# Altium schematic symbol library integratedLib.SchLib: 95 symbols
Pins are listed as number, name and electrical type; pins without a type are passive.

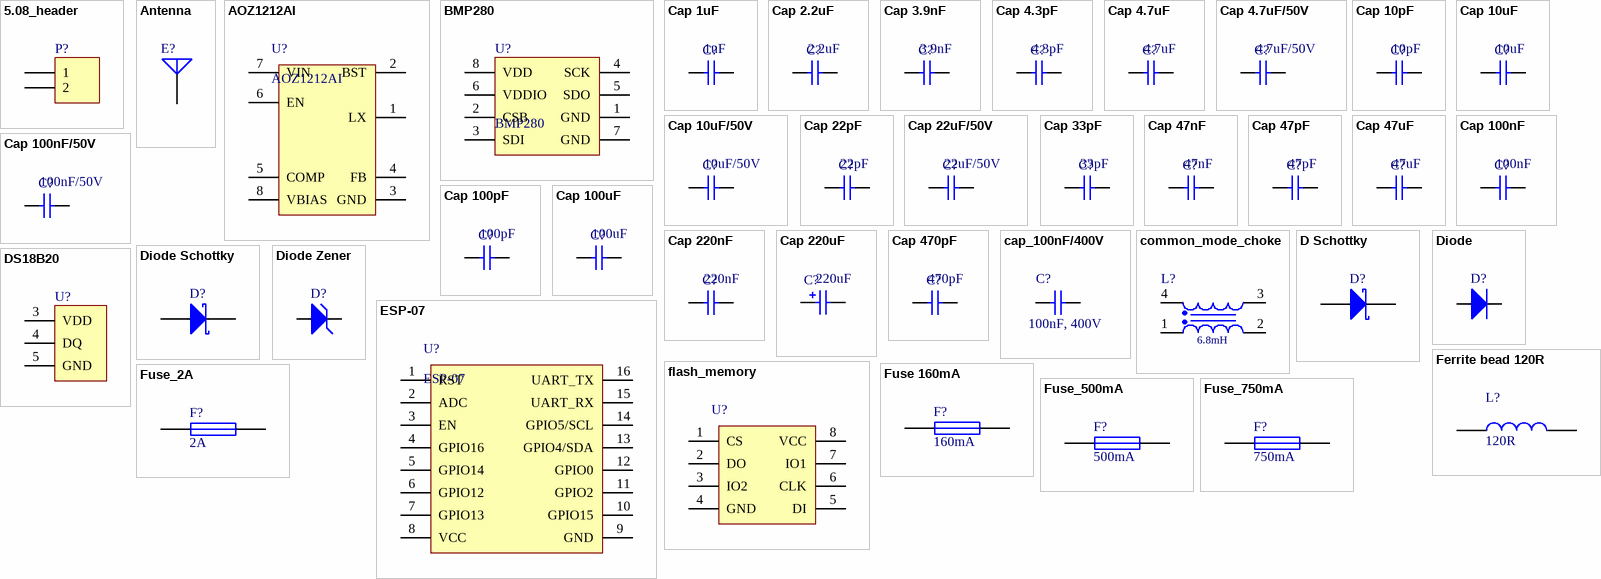
[diagram p0: symbols 5.08_header to Fuse_750mA]

## 5.08_header
designator P?
5.08 Header, 2-Pin; LatestRevisionDate: 17-Jul-2002; LatestRevisionNote: Re-released for DXP Platform.; Publisher: Altium Limited
footprint 5.08_connector_2pin (Connector; Header; 3 Position)
pins: 1, 2

## Antenna
designator E?
Generic Antenna; Published: 24-Mar-1999; LatestRevisionDate: 17-Jul-2002; LatestRevisionNote: Re-released for DXP Platform.; PackageReference: PIN1; Publisher: Altium Limited; ComponentLink1Description: tme; ComponentLink1URL: https://www.tme.eu/pl/details/rf2-19a-t-00-50-g/zlacza-sma-smb-smc/adam-tech/
footprint SMA connector (SMA antena connector)
pins: 1 A

## AOZ1212AI
designator U?
step down coverter; ComponentLink1Description: tme; ComponentLink1URL: https://www.tme.eu/pl/details/aoz1212ai/regulatory-napiecia-uklady-dc-dc/alpha-omega-semiconductor/
footprint SO8 (SO8 8-Leads, Body 4,90x3,90mm, Pitch 1,27mm, IPC Medium Density)
pins: 1 LX, 2 BST, 3 GND, 4 FB, 5 COMP, 6 EN, 7 VIN, 8 VBIAS

## BMP280
designator U?
Digital Pressure Sensor; ComponentLink1Description: Datasheet; ComponentLink1URL: https://datasheet.lcsc.com/szlcsc/Bosch-Sensortec-BMP280_C83291.pdf
footprint LGA8
pins: 1 GND (power), 2 CSB (power), 3 SDI, 4 SCK, 5 SDO (power), 6 VDDIO (power), 7 GND, 8 VDD

## Cap 1uF
designator C?  value 1uF  (hidden comment: Cap 1uF)
Capacitor
footprint C0603 (Chip Capacitor, 2-Leads, Body 1,60x0,80mm, IPC Medium Density)
footprint C0402 (Chip Capacitor, 2-Leads, Body 1,00x0,50mm, IPC Medium Density)
footprint C1210 (Chip Capacitor, 2-Leads, Body 3,28x2,60mm, IPC Medium Density)
pins: 1, 2

## Cap 2.2uF
designator C?  value 2.2uF  (hidden comment: Cap 2.2uF)
Capacitor
footprint C0603 (Chip Capacitor, 2-Leads, Body 1,60x0,80mm, IPC Medium Density)
footprint C0402 (Chip Capacitor, 2-Leads, Body 1,00x0,50mm, IPC Medium Density)
footprint C0805 (Chip Capacitor, 2-Leads, Body 2,00x1,27mm, IPC Medium Density)
footprint C1206 (Chip Capacitor, 2-Leads, Body 3,20x1,60mm, IPC Medium Density)
pins: 1, 2

## Cap 3.9nF
designator C?  value 3.9nF  (hidden comment: Cap 3.9nF)
Capacitor
footprint C0603 (Chip Capacitor, 2-Leads, Body 1,60x0,80mm, IPC Medium Density)
footprint C0402 (Chip Capacitor, 2-Leads, Body 1,00x0,50mm, IPC Medium Density)
pins: 1, 2

## Cap 4.3pF
designator C?  value 4.3pF  (hidden comment: Cap 4.3pF)
Capacitor
footprint C0603 (Chip Capacitor, 2-Leads, Body 1,60x0,80mm, IPC Medium Density)
footprint C0402 (Chip Capacitor, 2-Leads, Body 1,00x0,50mm, IPC Medium Density)
footprint C1210 (Chip Capacitor, 2-Leads, Body 3,28x2,60mm, IPC Medium Density)
pins: 1, 2

## Cap 4.7uF
designator C?  value 4.7uF  (hidden comment: Cap 4.7uF)
Capacitor
footprint C0603 (Chip Capacitor, 2-Leads, Body 1,60x0,80mm, IPC Medium Density)
footprint C0402 (Chip Capacitor, 2-Leads, Body 1,00x0,50mm, IPC Medium Density)
footprint C1210 (Chip Capacitor, 2-Leads, Body 3,28x2,60mm, IPC Medium Density)
footprint C1206 (Chip Capacitor, 2-Leads, Body 3,20x1,60mm, IPC Medium Density)
footprint C0805 (Chip Capacitor, 2-Leads, Body 2,00x1,27mm, IPC Medium Density)
pins: 1, 2

## Cap 4.7uF/50V
designator C?  value 4.7uF/50V  (hidden comment: Cap 4.7uF/50V)
Capacitor
footprint C0603 (Chip Capacitor, 2-Leads, Body 1,60x0,80mm, IPC Medium Density)
footprint C0402 (Chip Capacitor, 2-Leads, Body 1,00x0,50mm, IPC Medium Density)
footprint C1210 (Chip Capacitor, 2-Leads, Body 3,28x2,60mm, IPC Medium Density)
footprint C1206 (Chip Capacitor, 2-Leads, Body 3,20x1,60mm, IPC Medium Density)
footprint C0805 (Chip Capacitor, 2-Leads, Body 2,00x1,27mm, IPC Medium Density)
pins: 1, 2

## Cap 10pF
designator C?  value 10pF  (hidden comment: Cap 10pF)
Capacitor
footprint C0603 (Chip Capacitor, 2-Leads, Body 1,60x0,80mm, IPC Medium Density)
footprint C0402 (Chip Capacitor, 2-Leads, Body 1,00x0,50mm, IPC Medium Density)
footprint C1210 (Chip Capacitor, 2-Leads, Body 3,28x2,60mm, IPC Medium Density)
pins: 1, 2

## Cap 10uF
designator C?  value 10uF  (hidden comment: Cap 10uF)
Capacitor
footprint C0603 (Chip Capacitor, 2-Leads, Body 1,60x0,80mm, IPC Medium Density)
footprint C0402 (Chip Capacitor, 2-Leads, Body 1,00x0,50mm, IPC Medium Density)
footprint C1210 (Chip Capacitor, 2-Leads, Body 3,28x2,60mm, IPC Medium Density)
pins: 1, 2

## Cap 10uF/50V
designator C?  value 10uF/50V  (hidden comment: Cap 10uF/50V)
Capacitor
footprint C0603 (Chip Capacitor, 2-Leads, Body 1,60x0,80mm, IPC Medium Density)
footprint C0402 (Chip Capacitor, 2-Leads, Body 1,00x0,50mm, IPC Medium Density)
footprint C0805 (Chip Capacitor, 2-Leads, Body 2,00x1,27mm, IPC Medium Density)
footprint C1206 (Chip Capacitor, 2-Leads, Body 3,20x1,60mm, IPC Medium Density)
pins: 1, 2

## Cap 22pF
designator C?  value 22pF  (hidden comment: Cap 22pF)
Capacitor
footprint C0603 (Chip Capacitor, 2-Leads, Body 1,60x0,80mm, IPC Medium Density)
footprint C0402 (Chip Capacitor, 2-Leads, Body 1,00x0,50mm, IPC Medium Density)
footprint C1210 (Chip Capacitor, 2-Leads, Body 3,28x2,60mm, IPC Medium Density)
pins: 1, 2

## Cap 22uF/50V
designator C?  value 22uF/50V  (hidden comment: Cap 22uF/50V)
Capacitor
footprint C0603 (Chip Capacitor, 2-Leads, Body 1,60x0,80mm, IPC Medium Density)
footprint C0402 (Chip Capacitor, 2-Leads, Body 1,00x0,50mm, IPC Medium Density)
footprint C0805 (Chip Capacitor, 2-Leads, Body 2,00x1,27mm, IPC Medium Density)
footprint C1206 (Chip Capacitor, 2-Leads, Body 3,20x1,60mm, IPC Medium Density)
pins: 1, 2

## Cap 33pF
designator C?  value 33pF  (hidden comment: Cap 33pF)
Capacitor
footprint C0603 (Chip Capacitor, 2-Leads, Body 1,60x0,80mm, IPC Medium Density)
footprint C0402 (Chip Capacitor, 2-Leads, Body 1,00x0,50mm, IPC Medium Density)
footprint C1210 (Chip Capacitor, 2-Leads, Body 3,28x2,60mm, IPC Medium Density)
pins: 1, 2

## Cap 47nF
designator C?  value 47nF  (hidden comment: Cap 47nF)
Capacitor 47nF
footprint C0603 (Chip Capacitor, 2-Leads, Body 1,60x0,80mm, IPC Medium Density)
footprint C0402 (Chip Capacitor, 2-Leads, Body 1,00x0,50mm, IPC Medium Density)
footprint C1210 (Chip Capacitor, 2-Leads, Body 3,28x2,60mm, IPC Medium Density)
pins: 1, 2

## Cap 47pF
designator C?  value 47pF  (hidden comment: Cap 47pF)
Capacitor
footprint C0603 (Chip Capacitor, 2-Leads, Body 1,60x0,80mm, IPC Medium Density)
footprint C0402 (Chip Capacitor, 2-Leads, Body 1,00x0,50mm, IPC Medium Density)
footprint C1210 (Chip Capacitor, 2-Leads, Body 3,28x2,60mm, IPC Medium Density)
pins: 1, 2

## Cap 47uF
designator C?  value 47uF  (hidden comment: Cap 47uF)
Capacitor
footprint C0603 (Chip Capacitor, 2-Leads, Body 1,60x0,80mm, IPC Medium Density)
footprint C0402 (Chip Capacitor, 2-Leads, Body 1,00x0,50mm, IPC Medium Density)
footprint C1210 (Chip Capacitor, 2-Leads, Body 3,28x2,60mm, IPC Medium Density)
footprint C1206 (Chip Capacitor, 2-Leads, Body 3,20x1,60mm, IPC Medium Density)
pins: 1, 2

## Cap 100nF
designator C?  value 100nF  (hidden comment: Cap 100nF)
Capacitor
footprint C0603 (Chip Capacitor, 2-Leads, Body 1,60x0,80mm, IPC Medium Density)
footprint C0402 (Chip Capacitor, 2-Leads, Body 1,00x0,50mm, IPC Medium Density)
pins: 1, 2

## Cap 100nF/50V
designator C?  value 100nF/50V  (hidden comment: Cap 100nF/50V)
Capacitor
footprint C0603 (Chip Capacitor, 2-Leads, Body 1,60x0,80mm, IPC Medium Density)
footprint C0402 (Chip Capacitor, 2-Leads, Body 1,00x0,50mm, IPC Medium Density)
footprint C0805 (Chip Capacitor, 2-Leads, Body 2,00x1,27mm, IPC Medium Density)
footprint C1206 (Chip Capacitor, 2-Leads, Body 3,20x1,60mm, IPC Medium Density)
pins: 1, 2

## Cap 100pF
designator C?  value 100pF  (hidden comment: Cap 100pF)
Capacitor
footprint C0603 (Chip Capacitor, 2-Leads, Body 1,60x0,80mm, IPC Medium Density)
footprint C0402 (Chip Capacitor, 2-Leads, Body 1,00x0,50mm, IPC Medium Density)
pins: 1, 2

## Cap 100uF
designator C?  value 100uF  (hidden comment: Cap 100uF)
Capacitor
footprint C0603 (Chip Capacitor, 2-Leads, Body 1,60x0,80mm, IPC Medium Density)
footprint C1210 (Chip Capacitor, 2-Leads, Body 3,28x2,60mm, IPC Medium Density)
footprint C1206 (Chip Capacitor, 2-Leads, Body 3,20x1,60mm, IPC Medium Density)
pins: 1, 2

## Cap 220nF
designator C?  value 220nF  (hidden comment: Cap 220nF)
Capacitor
footprint C0603 (Chip Capacitor, 2-Leads, Body 1,60x0,80mm, IPC Medium Density)
footprint C0402 (Chip Capacitor, 2-Leads, Body 1,00x0,50mm, IPC Medium Density)
footprint C1210 (Chip Capacitor, 2-Leads, Body 3,28x2,60mm, IPC Medium Density)
pins: 1, 2

## Cap 220uF
designator C?  value 220uF
Polarized Capacitor (Radial) SMD
footprint CAP_8x10 (Aluminum Electrolytic Capacitor, Body 8,30x8,30x10,50mm, IPC High Density)
pins: 1, 2
1 alternate drawing of the same symbol

## Cap 470pF
designator C?  value 470pF  (hidden comment: Cap 470pF)
Capacitor
footprint C0603 (Chip Capacitor, 2-Leads, Body 1,60x0,80mm, IPC Medium Density)
footprint C0402 (Chip Capacitor, 2-Leads, Body 1,00x0,50mm, IPC Medium Density)
footprint C1210 (Chip Capacitor, 2-Leads, Body 3,28x2,60mm, IPC Medium Density)
pins: 1, 2

## cap_100nF/400V
designator C?, comment 100nF, 400V
WCAP-FTBE THT Film Capacitors, 100nF, 400VDC; Part Number: 890283423001CS; Insulation Resistance: 9000MOhm; Dissipation Factor@100kHz: 2.4%; Dissipation Factor@1kHz: 1%; Dissipation Factor@10kHz: 1.4%; Pitch: 10mm; Rate of Voltage Rise: 34V/us; Technical Reference: MPSP010104K400DCPP55004; ComponentLink1Description: Manufacturer; ComponentLink1URL: http://www.we-online.de; ComponentLink2Description: Datasheet; ComponentLink2URL: https://katalog.we-online.com/pbs/datasheet/890283423001CS.pdf; Length: 13mm; Mounting Technology: THT; Packaging: Carton; Operating Temperature: -40 to +85degC; Width: 5mm; Capacitance: 100nF; Height: 11mm; Rated Voltage: 400VDC; Publisher: Wurth Elektronik; Published Date: August 2019
footprint L13_W5_H11_P10 (THT Film Capacitors, body 13x5mm)
pins: 1, 2

## common_mode_choke
designator L?, comment 6.8mH
WE-LF Common Mode Power Line Choke, Type SV, 6.8mH, 1A, 250V; Manufacturer Part Number: 7446121007; Manufacturer: Wurth Elektronik; DC Resistance max.: 0.3Ohm; Insulation Test Voltage: 1500VAC; Rated Voltage: 250VAC; ComponentLink1Description: Manufacturer; ComponentLink1URL: http://www.we-online.de; ComponentLink2Description: Datasheet; ComponentLink2URL: https://www.we-online.com/catalog/datasheet/7446121007.pdf; Published Date: April 2020; Operating Temperature: -40 to +125degC; Mounting Technology: THT; Packaging: Tray and Carton; Inductance: 6.8mH; Rated Current: 1A; Size: Type SV
footprint WE-LF_Type SV (Common Mode Power Line Choke, THT, 4-leads, body 18.5x13.5mm)
pins: 1, 2, 3, 4

## D Schottky
designator D?
Schottky Diode; Published: 8-Jun-2000; LatestRevisionDate: 17-Jul-2002; LatestRevisionNote: Re-released for DXP Platform.; PackageReference: SMB; Publisher: Altium Limited; PackageDescription: DO-214-AA/SMB; 2 C-Bend Leads; Body 5.3 x 3.6 mm, inc. leads (LxW); Code_JEDEC: DO-214-AA
footprint SMA (Molded Diode, 2-Leads, Body 4,28x2,60mm, IPC High Density)
footprint SOD-123A (SOD-123A, 2-Leads, Body 1,60x3,70mm, IPC High Density)
pins: 1 A, 2 K

## Diode
designator D?
fast switching diode; Published: 8-Jun-2000; LatestRevisionDate: 17-Jul-2002; LatestRevisionNote: Re-released for DXP Platform.; DatasheetVersion: 1997; PackageReference: DO-35; Publisher: Altium Limited; PackageDescription: Diode, Axial; Body 3.8 x 1.9 mm (LxDia. max), Lead Dia. 0.53 mm (max); Code_JEDEC: DO-204-AH; ComponentLink1Description: farnell; ComponentLink1URL: https://pl.farnell.com/nexperia/1ps76sb10-115/diode-schottky-200ma-30v-sod-323/dp/1081179RL
footprint SMADIODE (Molded Diode, 2-Leads, Body 4,50x2,65mm, IPC Medium Density)
footprint SOD123 (SODFL, 2-Leads, Body 1,90x3,70mm, IPC Medium Density)
footprint SOD323 (SODFL, 2-Leads, Body 1,28x2,50mm, IPC Medium Density)
footprint SMA (Molded Diode, 2-Leads, Body 4,28x2,60mm, IPC High Density)
footprint SOD-123A (SOD-123A, 2-Leads, Body 1,60x3,70mm, IPC High Density)
pins: 1 A, 2 K

## Diode Schottky
designator D?, comment STPS1L30U  (value not drawn)
Schottky Rectifier; Note: Terminal 2 is the TAB and is electrically connected to the cathode; Published: 8-Jun-2000; LatestRevisionDate: 17-Jul-2002; LatestRevisionNote: Re-released for DXP Platform.; DatasheetVersion: Dec-1997; PackageVersion: Feb-1998; PackageReference: TO-220AC; Publisher: Altium Limited; PackageDescription: TO, Thru-Hole, Vertical, Heatsink Mounted; 3 In-Line Leads (1 Absent); Pitch 2.54 mm; ComponentLink1Description: octopart; ComponentLink1URL: https://octopart.com/rb161mm-20tr-rohm-50255147?r=sp&s=49MKJYpmTviEGZkvRDL2JQ
footprint SMBDIODE (Molded Diode, 2-Leads, Body 4,25x3,65mm, IPC Medium Density)
footprint SOD123 (SODFL, 2-Leads, Body 1,90x3,70mm, IPC Medium Density)
footprint SOD-123A (SOD-123A, 2-Leads, Body 1,60x3,70mm, IPC High Density)
footprint SMA (Molded Diode, 2-Leads, Body 4,28x2,60mm, IPC High Density)
pins: 1 A, 2 K

## Diode Zener
designator D?, comment Zener Diode  (value not drawn)
Published: 8-Jun-2000; LatestRevisionDate: 17-Jul-2002; LatestRevisionNote: Re-released for DXP Platform.; PackageReference: DIODE-0.7; Publisher: Altium Limited; PackageDescription: Diode, Thru-Hole; 2 Leads; 0.7 in Pin Spacing; ComponentLink1Description: farnell; ComponentLink1URL: https://pl.farnell.com/on-semiconductor/mm3z5v6st1g/zener-diode-5-6v-sod-323/dp/2463484
footprint SOD323 (SODFL, 2-Leads, Body 1,28x2,50mm, IPC Medium Density)
footprint miniMELF (MELF Diode, 2-Leads, Body 3,50x1,50mm, IPC High Density)
pins: 1 A, 2 K

## DS18B20
designator U?
DS18B20; LatestRevisionDate: 17-Jul-2002; LatestRevisionNote: Re-released for DXP Platform.; Publisher: Altium Limited
footprint SO8 (SO8 8-Leads, Body 4,90x3,90mm, Pitch 1,27mm, IPC Medium Density)
pins: 3 VDD, 4 DQ, 5 GND

## ESP-07
designator U?
AiThinker ESP-07; ComponentLink1Description: datasheet; ComponentLink1URL: http://wiki.ai-thinker.com/_media/esp8266/esp8266_series_modules_user_manual_v1.1.pdf
footprint ESP-07
pins: 1 RST, 2 ADC, 3 EN, 4 GPIO16, 5 GPIO14, 6 GPIO12, 7 GPIO13, 8 VCC (power) "3.3V", 9 GND, 10 GPIO15, 11 GPIO2, 12 GPIO0, 13 GPIO4/SDA, 14 GPIO5/SCL, 15 UART_RX, 16 UART_TX

## Ferrite bead 120R
designator L?, comment 120R
Ferrite bead; Value: 10mH; Published: 24-Mar-1999; LatestRevisionDate: 17-Jul-2002; LatestRevisionNote: Re-released for DXP Platform.; PackageReference: AXIAL-0.9; Publisher: Altium Limited; PackageDescription: Axial Device, Thru-Hole; 2 Leads; 0.9 in Pin Spacing; ComponentLink1Description: Ferrite bead TDK MMZ2012Y300B; ComponentLink1URL: https://www.tme.eu/pl/details/mmz2012y300b/ferryty-koraliki/tdk/
footprint 0805FerriteBead (Chip Ferrite Bead, 2-Leads, Body 2,00x1,25mm, IPC Medium Density)
pins: 1, 2

## flash_memory
designator U?, comment W25Q128JVSIQ  (value not drawn)
SPI Flash  memory 128MB; ComponentLink1Description: tme; ComponentLink1URL: https://datasheet.lcsc.com/szlcsc/Winbond-Elec-W25Q128JVSIQTR_C97521.pdf
footprint SOIC8_208-mil
pins: 1 CS, 2 DO, 3 IO2, 4 GND, 5 DI, 6 CLK, 7 IO1, 8 VCC

## Fuse 160mA
designator F?, comment 160mA
Fuse / 3413.0008.22; Published: 8-Jun-2000; LatestRevisionDate: 17-Jul-2002; LatestRevisionNote: Re-released for DXP Platform.; PackageReference: PIN-W2/E2.8; Publisher: Altium Limited; PackageDescription: Thru-Hole; 2 Leads; ComponentLink1Description: octopart; ComponentLink1URL: https://octopart.com/3413.0008.22-schurter-13188129?r=sp&s=UiLZPHeMR-aLU9bKBH07dg
footprint R1206 (Chip Resistor, 2-Leads, Body 3,15x1,55mm, IPC Medium Density)
pins: 1, 2

## Fuse_2A
designator F?, comment 2A
Fuse / 2850030; Published: 8-Jun-2000; LatestRevisionDate: 17-Jul-2002; LatestRevisionNote: Re-released for DXP Platform.; PackageReference: PIN-W2/E2.8; Publisher: Altium Limited; PackageDescription: Thru-Hole; 2 Leads; ComponentLink1Description: farnell; ComponentLink1URL: https://pl.farnell.com/multicomp/mccfb1206ttt-2/fuse-smd-2a-slow-blow-1206/dp/2850030
footprint R1206 (Chip Resistor, 2-Leads, Body 3,15x1,55mm, IPC Medium Density)
pins: 1, 2

## Fuse_500mA
designator F?, comment 500mA
Fuse / 3413.0113.22; Published: 8-Jun-2000; LatestRevisionDate: 17-Jul-2002; LatestRevisionNote: Re-released for DXP Platform.; PackageReference: PIN-W2/E2.8; Publisher: Altium Limited; PackageDescription: Thru-Hole; 2 Leads; ComponentLink1Description: octopart; ComponentLink1URL: https://octopart.com/3413.0113.22-schurter-563523?r=sp&s=zSJ1_IK_S9Whksyv-Dc7qA
footprint R1206 (Chip Resistor, 2-Leads, Body 3,15x1,55mm, IPC Medium Density)
pins: 1, 2

## Fuse_750mA
designator F?, comment 750mA
Fuse / 3413.0114.22; Published: 8-Jun-2000; LatestRevisionDate: 17-Jul-2002; LatestRevisionNote: Re-released for DXP Platform.; PackageReference: PIN-W2/E2.8; Publisher: Altium Limited; PackageDescription: Thru-Hole; 2 Leads; ComponentLink1Description: farnell; ComponentLink1URL: https://pl.farnell.com/schurter/3413-0114-22/fuse-0-75a-63vdc-smt/dp/7785720
footprint R1206 (Chip Resistor, 2-Leads, Body 3,15x1,55mm, IPC Medium Density)
pins: 1, 2

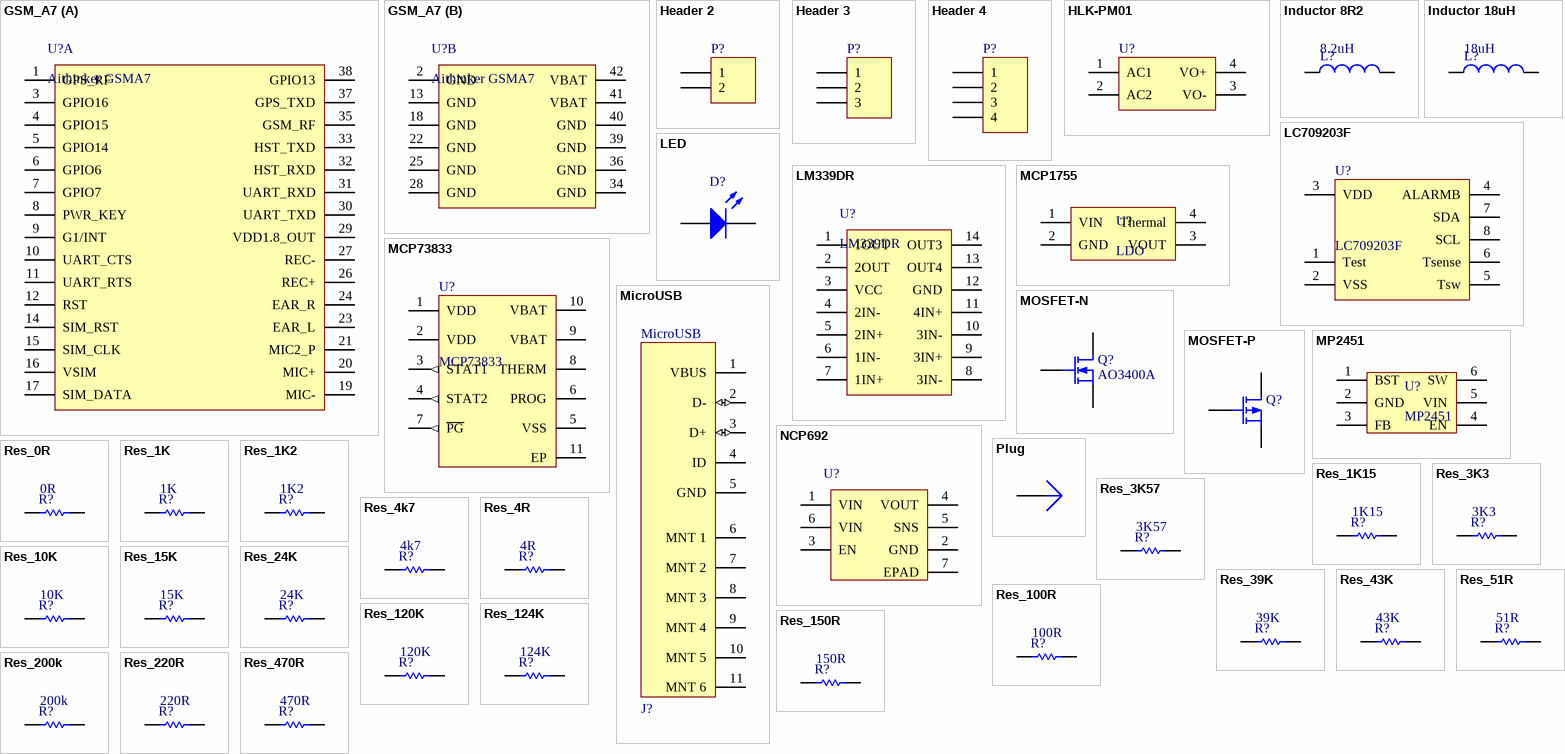
[diagram p1: symbols GSM_A7 to Res_470R]

## GSM_A7
designator U?, comment Aithinker GSMA7
Aitkinker GSM A7 module; Manufacturer: STMicroelectronics; PartNumber: STM32L152CCU6; Core: ARM Cortex-M3; D/A Converter: 2x12-bit (2 Channel); Data E2PROM nom (B): 8192; Display controller: LCD 4x18; FLASH Size (Prog) (kB): 256; I/Os (High Current): 37; Internal RAM Size (kB): 32; Packing: Tray; Supply Voltage(Vcc) min (V): 1.65; DatasheetVersion: Rev. 3; PackageVersion: Rev. 1, 04/2013; PackageReference: UFQFPN48; PackageDescription: 48-Pin Ultra Thin Fine Pitch Quad Flat No-Lead, 7 x 7 x 0.6 mm Body, 0.5 mm Pitch, Exposed Pad; Operating Frequency(F) (Processor speed) (MHz): 32; Mounting Technology: Surface Mount
footprint A7
part A pins: 1 GPS_RF, 3 GPIO16, 4 GPIO15, 5 GPIO14, 6 GPIO6, 7 GPIO7, 8 PWR_KEY (power) "3.3V", 9 G1/INT, 10 UART_CTS, 11 UART_RTS, 12 RST, 14 SIM_RST, 15 SIM_CLK, 16 VSIM, 17 SIM_DATA, 19 MIC-, 20 MIC+, 21 MIC2_P, 23 EAR_L, 24 EAR_R, 26 REC+, 27 REC-, 29 VDD1.8_OUT, 30 UART_TXD, 31 UART_RXD, 32 HST_RXD, 33 HST_TXD, 35 GSM_RF, 37 GPS_TXD, 38 GPIO13
part B pins: 2 GND, 13 GND, 18 GND, 22 GND, 25 GND, 28 GND, 34 GND, 36 GND, 39 GND, 40 GND, 41 VBAT, 42 VBAT

## Header 2
designator P?
Header, 2-Pin; LatestRevisionDate: 17-Jul-2002; LatestRevisionNote: Re-released for DXP Platform.; Publisher: Altium Limited
footprint HDR1X2 (Connector; Header; 2 Position)
footprint HDR1X2 - 1.27mm (Connector; Header; 2 Position)
footprint HDR1x2_screw (Connector; Header; 2 Position)
pins: 1, 2

## Header 3
designator P?
Header, 3-Pin; LatestRevisionDate: 17-Jul-2002; LatestRevisionNote: Re-released for DXP Platform.; Publisher: Altium Limited
footprint HDR1X3 - 1.27MM (Connector; Header; 4 Position)
footprint HDR1X3 (Connector; Header; 3 Position)
pins: 1, 2, 3

## Header 4
designator P?
Header, 4-Pin; LatestRevisionDate: 17-Jul-2002; LatestRevisionNote: Re-released for DXP Platform.; Publisher: Altium Limited
footprint HDR1X4 - 1.27MM (Connector; Header; 4 Position)
footprint HDR1X4 (Connector; Header; 4 Position)
pins: 1, 2, 3, 4

## HLK-PM01
designator U?
HLK-PM01 230V / 5V 0.6A; LatestRevisionDate: 17-Jul-2002; LatestRevisionNote: Re-released for DXP Platform.; Publisher: Altium Limited
footprint HLK-PM01
pins: 1 AC1, 2 AC2, 3 VO-, 4 VO+

## Inductor 8R2
designator L?  value 8.2uH
HPI0630-8R2; Code_IEC: 1005; Published: 8-Jun-2000; LatestRevisionDate: 29-May-2009; LatestRevisionNote: IPC-7351 Footprint Added.; PackageReference: 0402-A; Publisher: Altium Limited; PackageDescription: Chip Inductor; Code_JEITA: 0402; ComponentLink1Description: tme; ComponentLink1URL: https://www.tme.eu/pl/details/hpi0630-8r2/dlawiki-smd-mocy/ferrocore/
footprint inductor 6.7x6.7
pins: 1, 2

## Inductor 18uH
designator L?  value 18uH
WE 744 043 180; Code_IEC: 1005; Published: 8-Jun-2000; LatestRevisionDate: 29-May-2009; LatestRevisionNote: IPC-7351 Footprint Added.; PackageReference: 0402-A; Publisher: Altium Limited; PackageDescription: Chip Inductor; Code_JEITA: 0402
footprint WE-TPC_4828 (Power Inductor, SMD, 2-Leads, body 4.8x4.8mm)
pins: 1, 2

## LC709203F
designator U?
Smart LiB GaugeBattery Fuel Gauge LSI For 1‐Cell Lithium‐ion/Polymer (Li+); ComponentLink1Description: Datasheet; ComponentLink1URL: https://www.onsemi.com/pub/Collateral/LC709203F-D.PDF
footprint WDFN8 (WDFN8 , 8-Leads, Body 3,00x4,00mm, Pitch 0,65mm, Thermal Pad 1,80x2,40mm, IPC Low Density)
pins: 1 Test (power), 2 VSS (power), 3 VDD, 4 ALARMB, 5 Tsw (power), 6 Tsense (power), 7 SDA, 8 SCL

## LED
designator D?
Typical RED GaAs LED; Published: 8-Jun-2000; LatestRevisionDate: 08-Jul-2005; LatestRevisionNote: Mech Layer 1 removed.; PackageReference: LED-1; Publisher: Altium Limited; PackageDescription: LED; 2 Leads
footprint 0603LedRed (Chip Led 2-Leads, Body 1,60x0,85mm, IPC Medium Density)
pins: 1 A, 2 K

## LM339DR
designator U?
QUAD DIFFERENTIAL COMPARATORS; ComponentLink1Description: datasheet; ComponentLink1URL: https://datasheet.lcsc.com/szlcsc/Texas-Instruments-TI-LM339DR_C7948.pdf
footprint SOIC14
pins: 1 1OUT, 2 2OUT, 3 VCC, 4 2IN-, 5 2IN+, 6 1IN-, 7 1IN+, 8 3IN-, 9 3IN+, 10 3IN-, 11 4IN+, 12 GND, 13 OUT4, 14 OUT3

## MCP1755
designator U?, comment LDO
LDO 3.3V; ComponentLink1Description: datasheet; ComponentLink1URL: http://ww1.microchip.com/downloads/en/devicedoc/25160a.pdf
footprint SOT223 (SOT223, 4-Leads, Body 6,50x7,00mm (avg), Pitch 2,30mm, IPC High Density)
pins: 1 VIN, 2 GND, 3 VOUT, 4 Thermal

## MCP73833
designator U?
Li-Ion, Li-Polymer Charge Management Controller; PartNumber: MCP73831T-2ATI/OT; PackageDescription: 5-Lead Plastic Small Outline Transistor (OT) [SOT-23]; PackageVersion: revBB, Aug-2009; DatasheetVersion: revE, Sep-2008; Code_IPC: SOT23-5; PackageReference: SOT-23-OT5; ComponentLink1Description: octopart; ComponentLink1URL: https://octopart.com/mcp73833-fci%2Fmf-microchip-664198?r=sp&s=e45vLxEIQu2vH537JitsJQ
footprint DFN 3x3 (SON, 10-Leads, Body 3,00x3,00mm, Pitch 0,50mm, Thermal Pad 2,38x1,55mm, IPC Medium Density)
pins: 1 VDD (power), 2 VDD (power), 3 STAT1 (out), 4 STAT2 (out), 5 VSS, 6 PROG, 7 ~{PG} (out), 8 THERM, 9 VBAT (power), 10 VBAT (power), 11 EP

## MicroUSB
designator J?
ComponentLink1Description: octopart; ComponentLink1URL: https://octopart.com/1050170001-molex-11866487?r=sp&s=Rj0fqO-uQZ6OfaPf4COaug
footprint MicroUSB
pins: 1 VBUS (power), 2 D- (io), 3 D+ (io), 4 ID, 5 GND (power), 6 MNT 1, 7 MNT 2, 8 MNT 3, 9 MNT 4, 10 MNT 5, 11 MNT 6

## MOSFET-N
designator Q?, comment AO3400A
N-MOSFET AO3400A; Published: 8-Jun-2000; LatestRevisionDate: 17-Jul-2002; LatestRevisionNote: Re-released for DXP Platform.; PackageVersion: 1995/1996; PackageReference: E3; Publisher: Altium Limited; PackageDescription: TO, Flat Index; 3 In-Line, Axial Leads; Body Dia. 4.6mm; Lead Dia. 0.5 mm (max); ComponentLink1Description: datasheet; ComponentLink1URL: https://datasheet.lcsc.com/szlcsc/1908271131_Youtai-Semiconductor-Co-Ltd-AO3400A_C347475.pdf
footprint SOT23 (SOT23, 3-Leads, Body 2,90x2,45mm, Pitch 0,95mm, IPC Medium Density)
pins: 1 G, 2 S, 3 D

## MOSFET-P
designator Q?, comment AO3401A  (value not drawn)
P-Channel MOSFET AO3401A; Published: 8-Jun-2000; LatestRevisionDate: 17-Jul-2002; LatestRevisionNote: Re-released for DXP Platform.; PackageVersion: 1995/1996; PackageReference: E3; Publisher: Altium Limited; PackageDescription: TO, Flat Index; 3 In-Line, Axial Leads; Body Dia. 4.6mm; Lead Dia. 0.5 mm (max); ComponentLink1Description: datasheet; ComponentLink1URL: https://datasheet.lcsc.com/szlcsc/Alpha-Omega-Semicon-AOS-AO3401A_C15127.pdf
footprint SOT23 (SOT23, 3-Leads, Body 2,90x2,45mm, Pitch 0,95mm, IPC Medium Density)
pins: 1 G, 2 S, 3 D

## MP2451
designator U?
step down coverter; ComponentLink1Description: datasheet; ComponentLink1URL: https://www.monolithicpower.com/en/documentview/productdocument/index/version/2/document_type/Datasheet/lang/en/sku/MP2451/document_id/253/
footprint SOT23-6 (SOT23, 6-Leads, Body 2,90x2,80mm, Pitch 0,95mm, IPC High Density)
pins: 1 BST, 2 GND, 3 FB, 4 EN, 5 VIN, 6 SW

## NCP692
designator U?, comment NCP692MN33T2G  (value not drawn)
Very Low Dropout Regulator; ComponentLink1Description: datasheet; ComponentLink1URL: https://datasheet.lcsc.com/szlcsc/ON-Semicon-ON-NCP692MN33T2G_C145519.pdf
footprint DFN6_3x3
pins: 1 VIN, 2 GND, 3 EN, 4 VOUT, 5 SNS, 6 VIN, 7 EPAD

## Plug
designator P?  (no BOM)
Plug; LatestRevisionDate: 17-Jul-2002; LatestRevisionNote: Re-released for DXP Platform.; Publisher: Altium Limited
footprint PIN1 (Connector; Plug)
footprint pin smd (Chip Resistor, 2-Leads, Body 1,60x0,80mm, IPC Medium Density)
footprint pin1_small
footprint pin smd small (Chip Resistor, 2-Leads, Body 1,60x0,80mm, IPC Medium Density)
pins: 1

## Res_0R
designator R?  value 0R  (hidden comment: Res_0R)
Resistor
footprint R0603 (Chip Resistor, 2-Leads, Body 1,60x0,80mm, IPC Medium Density)
footprint R1206 (Chip Resistor, 2-Leads, Body 3,15x1,55mm, IPC Medium Density)
footprint R0805 (Chip Resistor, 2-Leads, Body 2,00x1,25mm, IPC Medium Density)
footprint R0402 (Chip Resistor, 2-Leads, Body 1,00x0,50mm, IPC Medium Density)
pins: 1, 2

## Res_1K
designator R?  value 1K  (hidden comment: Res_1K)
Resistor
footprint R0603 (Chip Resistor, 2-Leads, Body 1,60x0,80mm, IPC Medium Density)
footprint R1206 (Chip Resistor, 2-Leads, Body 3,15x1,55mm, IPC Medium Density)
footprint R0805 (Chip Resistor, 2-Leads, Body 2,00x1,25mm, IPC Medium Density)
footprint R0402 (Chip Resistor, 2-Leads, Body 1,00x0,50mm, IPC Medium Density)
pins: 1, 2

## Res_1K2
designator R?  value 1K2  (hidden comment: Res_1K2)
Resistor
footprint R0603 (Chip Resistor, 2-Leads, Body 1,60x0,80mm, IPC Medium Density)
footprint R1206 (Chip Resistor, 2-Leads, Body 3,15x1,55mm, IPC Medium Density)
footprint R0805 (Chip Resistor, 2-Leads, Body 2,00x1,25mm, IPC Medium Density)
footprint R0402 (Chip Resistor, 2-Leads, Body 1,00x0,50mm, IPC Medium Density)
pins: 1, 2

## Res_1K15
designator R?  value 1K15  (hidden comment: Res_1K15)
Resistor
footprint R0603 (Chip Resistor, 2-Leads, Body 1,60x0,80mm, IPC Medium Density)
footprint R1206 (Chip Resistor, 2-Leads, Body 3,15x1,55mm, IPC Medium Density)
footprint R0805 (Chip Resistor, 2-Leads, Body 2,00x1,25mm, IPC Medium Density)
footprint R0402 (Chip Resistor, 2-Leads, Body 1,00x0,50mm, IPC Medium Density)
pins: 1, 2

## Res_3K3
designator R?  value 3K3  (hidden comment: Res_3K3)
Resistor
footprint R0603 (Chip Resistor, 2-Leads, Body 1,60x0,80mm, IPC Medium Density)
footprint R1206 (Chip Resistor, 2-Leads, Body 3,15x1,55mm, IPC Medium Density)
footprint R0805 (Chip Resistor, 2-Leads, Body 2,00x1,25mm, IPC Medium Density)
footprint R0402 (Chip Resistor, 2-Leads, Body 1,00x0,50mm, IPC Medium Density)
pins: 1, 2

## Res_3K57
designator R?  value 3K57  (hidden comment: Res_3K57)
Resistor
footprint R0603 (Chip Resistor, 2-Leads, Body 1,60x0,80mm, IPC Medium Density)
footprint R1206 (Chip Resistor, 2-Leads, Body 3,15x1,55mm, IPC Medium Density)
footprint R0805 (Chip Resistor, 2-Leads, Body 2,00x1,25mm, IPC Medium Density)
footprint R0402 (Chip Resistor, 2-Leads, Body 1,00x0,50mm, IPC Medium Density)
pins: 1, 2

## Res_4k7
designator R?  value 4k7  (hidden comment: Res_4k7)
Resistor
footprint R0603 (Chip Resistor, 2-Leads, Body 1,60x0,80mm, IPC Medium Density)
footprint R1206 (Chip Resistor, 2-Leads, Body 3,15x1,55mm, IPC Medium Density)
footprint R0805 (Chip Resistor, 2-Leads, Body 2,00x1,25mm, IPC Medium Density)
footprint R0402 (Chip Resistor, 2-Leads, Body 1,00x0,50mm, IPC Medium Density)
pins: 1, 2

## Res_4R
designator R?  value 4R  (hidden comment: Res_4R)
Resistor
footprint R0603 (Chip Resistor, 2-Leads, Body 1,60x0,80mm, IPC Medium Density)
footprint R1206 (Chip Resistor, 2-Leads, Body 3,15x1,55mm, IPC Medium Density)
footprint R0805 (Chip Resistor, 2-Leads, Body 2,00x1,25mm, IPC Medium Density)
footprint R0402 (Chip Resistor, 2-Leads, Body 1,00x0,50mm, IPC Medium Density)
pins: 1, 2

## Res_10K
designator R?  value 10K  (hidden comment: Res_10K)
Resistor
footprint R0603 (Chip Resistor, 2-Leads, Body 1,60x0,80mm, IPC Medium Density)
footprint R1206 (Chip Resistor, 2-Leads, Body 3,15x1,55mm, IPC Medium Density)
footprint R0805 (Chip Resistor, 2-Leads, Body 2,00x1,25mm, IPC Medium Density)
footprint R0402 (Chip Resistor, 2-Leads, Body 1,00x0,50mm, IPC Medium Density)
pins: 1, 2

## Res_15K
designator R?  value 15K  (hidden comment: Res_15K)
Resistor
footprint R0603 (Chip Resistor, 2-Leads, Body 1,60x0,80mm, IPC Medium Density)
footprint R1206 (Chip Resistor, 2-Leads, Body 3,15x1,55mm, IPC Medium Density)
footprint R0805 (Chip Resistor, 2-Leads, Body 2,00x1,25mm, IPC Medium Density)
footprint R0402 (Chip Resistor, 2-Leads, Body 1,00x0,50mm, IPC Medium Density)
pins: 1, 2

## Res_24K
designator R?  value 24K  (hidden comment: Res_24K)
Resistor
footprint R0603 (Chip Resistor, 2-Leads, Body 1,60x0,80mm, IPC Medium Density)
footprint R1206 (Chip Resistor, 2-Leads, Body 3,15x1,55mm, IPC Medium Density)
footprint R0805 (Chip Resistor, 2-Leads, Body 2,00x1,25mm, IPC Medium Density)
footprint R0402 (Chip Resistor, 2-Leads, Body 1,00x0,50mm, IPC Medium Density)
pins: 1, 2

## Res_39K
designator R?  value 39K  (hidden comment: Res_39K)
Resistor
footprint R0603 (Chip Resistor, 2-Leads, Body 1,60x0,80mm, IPC Medium Density)
footprint R1206 (Chip Resistor, 2-Leads, Body 3,15x1,55mm, IPC Medium Density)
footprint R0805 (Chip Resistor, 2-Leads, Body 2,00x1,25mm, IPC Medium Density)
footprint R0402 (Chip Resistor, 2-Leads, Body 1,00x0,50mm, IPC Medium Density)
pins: 1, 2

## Res_43K
designator R?  value 43K  (hidden comment: Res_43K)
Resistor
footprint R0603 (Chip Resistor, 2-Leads, Body 1,60x0,80mm, IPC Medium Density)
footprint R1206 (Chip Resistor, 2-Leads, Body 3,15x1,55mm, IPC Medium Density)
footprint R0805 (Chip Resistor, 2-Leads, Body 2,00x1,25mm, IPC Medium Density)
footprint R0402 (Chip Resistor, 2-Leads, Body 1,00x0,50mm, IPC Medium Density)
pins: 1, 2

## Res_51R
designator R?  value 51R  (hidden comment: Res_51R)
Resistor
footprint R0603 (Chip Resistor, 2-Leads, Body 1,60x0,80mm, IPC Medium Density)
footprint R1206 (Chip Resistor, 2-Leads, Body 3,15x1,55mm, IPC Medium Density)
footprint R0805 (Chip Resistor, 2-Leads, Body 2,00x1,25mm, IPC Medium Density)
footprint R0402 (Chip Resistor, 2-Leads, Body 1,00x0,50mm, IPC Medium Density)
pins: 1, 2

## Res_100R
designator R?  value 100R  (hidden comment: Res_100R)
Resistor
footprint R0603 (Chip Resistor, 2-Leads, Body 1,60x0,80mm, IPC Medium Density)
footprint R1206 (Chip Resistor, 2-Leads, Body 3,15x1,55mm, IPC Medium Density)
footprint R0805 (Chip Resistor, 2-Leads, Body 2,00x1,25mm, IPC Medium Density)
footprint R0402 (Chip Resistor, 2-Leads, Body 1,00x0,50mm, IPC Medium Density)
pins: 1, 2

## Res_120K
designator R?  value 120K  (hidden comment: Res_120K)
Resistor
footprint R0603 (Chip Resistor, 2-Leads, Body 1,60x0,80mm, IPC Medium Density)
footprint R1206 (Chip Resistor, 2-Leads, Body 3,15x1,55mm, IPC Medium Density)
footprint R0805 (Chip Resistor, 2-Leads, Body 2,00x1,25mm, IPC Medium Density)
footprint R0402 (Chip Resistor, 2-Leads, Body 1,00x0,50mm, IPC Medium Density)
pins: 1, 2

## Res_124K
designator R?  value 124K  (hidden comment: Res_124K)
Resistor
footprint R0603 (Chip Resistor, 2-Leads, Body 1,60x0,80mm, IPC Medium Density)
footprint R1206 (Chip Resistor, 2-Leads, Body 3,15x1,55mm, IPC Medium Density)
footprint R0805 (Chip Resistor, 2-Leads, Body 2,00x1,25mm, IPC Medium Density)
footprint R0402 (Chip Resistor, 2-Leads, Body 1,00x0,50mm, IPC Medium Density)
pins: 1, 2

## Res_150R
designator R?  value 150R  (hidden comment: Res_150R)
Resistor
footprint R0603 (Chip Resistor, 2-Leads, Body 1,60x0,80mm, IPC Medium Density)
footprint R1206 (Chip Resistor, 2-Leads, Body 3,15x1,55mm, IPC Medium Density)
footprint R0805 (Chip Resistor, 2-Leads, Body 2,00x1,25mm, IPC Medium Density)
footprint R0402 (Chip Resistor, 2-Leads, Body 1,00x0,50mm, IPC Medium Density)
pins: 1, 2

## Res_200k
designator R?  value 200k  (hidden comment: Res_200k)
Resistor
footprint R0603 (Chip Resistor, 2-Leads, Body 1,60x0,80mm, IPC Medium Density)
footprint R1206 (Chip Resistor, 2-Leads, Body 3,15x1,55mm, IPC Medium Density)
footprint R0805 (Chip Resistor, 2-Leads, Body 2,00x1,25mm, IPC Medium Density)
footprint R0402 (Chip Resistor, 2-Leads, Body 1,00x0,50mm, IPC Medium Density)
pins: 1, 2

## Res_220R
designator R?  value 220R  (hidden comment: Res_220R)
Resistor
footprint R0603 (Chip Resistor, 2-Leads, Body 1,60x0,80mm, IPC Medium Density)
footprint R1206 (Chip Resistor, 2-Leads, Body 3,15x1,55mm, IPC Medium Density)
footprint R0805 (Chip Resistor, 2-Leads, Body 2,00x1,25mm, IPC Medium Density)
footprint R0402 (Chip Resistor, 2-Leads, Body 1,00x0,50mm, IPC Medium Density)
pins: 1, 2

## Res_470R
designator R?  value 470R  (hidden comment: Res_470R)
Resistor
footprint R0603 (Chip Resistor, 2-Leads, Body 1,60x0,80mm, IPC Medium Density)
footprint R1206 (Chip Resistor, 2-Leads, Body 3,15x1,55mm, IPC Medium Density)
footprint R0805 (Chip Resistor, 2-Leads, Body 2,00x1,25mm, IPC Medium Density)
footprint R0402 (Chip Resistor, 2-Leads, Body 1,00x0,50mm, IPC Medium Density)
pins: 1, 2

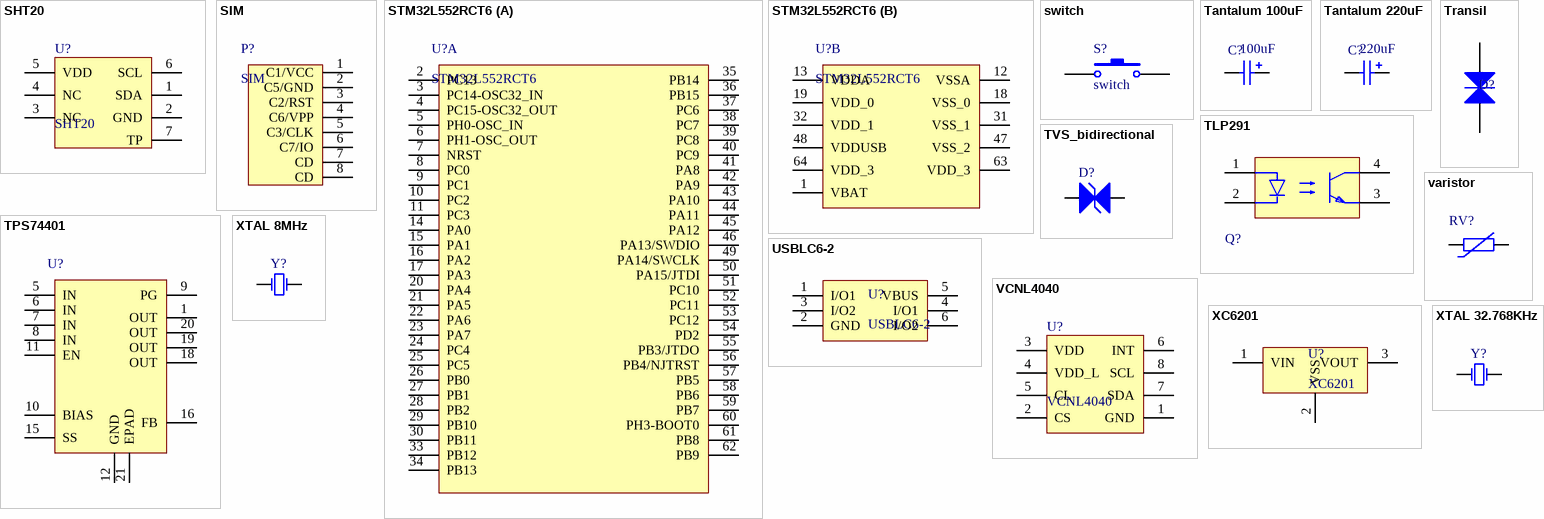
[diagram p2: symbols SHT20 to XTAL 32.768KHz]

## SHT20
designator U?
Humidity and Temperature SensorIC; ComponentLink1Description: Datasheet; ComponentLink1URL: https://datasheet.lcsc.com/szlcsc/Sensirion-SHT20_C53865.pdf
footprint DFN6
pins: 1 SDA (power), 2 GND (power), 3 NC, 4 NC (power), 5 VDD, 6 SCL (power), 7 TP (power)

## SIM
designator P?
SIM card connector; ComponentLink1Description: tme; ComponentLink1URL: https://www.tme.eu/pl/details/mx-47553-0001/zlacza-do-kart/molex/47553-0001/; ComponentLink2Description: molex; ComponentLink2URL: https://www.molex.com/molex/products/part-detail/memory_card_socket/0475530001
footprint SIM TRAY (47553-0001 MOLEX SIM TRAY)
pins: 1 C1/VCC, 2 C5/GND, 3 C2/RST, 4 C6/VPP, 5 C3/CLK, 6 C7/IO, 7 CD, 8 CD

## STM32L552RCT6
designator U?
Arm Cortex-M33 with Trust Zone, MCU 110 MHz with 512K Flash 256K Ram memory LQFP64; Manufacturer: STMicroelectronics; PartNumber: STM32L152CCU6; D/A Converter: 2x12-bit (2 Channel); Data E2PROM nom (B): 8192; Display controller: LCD 4x18; FLASH Size (Prog) (kB): 256; I/Os (High Current): 37; Internal RAM Size (kB): 32; Packing: Tray; Supply Voltage(Vcc) min (V): 1.65; DatasheetVersion: Rev. 3; PackageVersion: Rev. 1, 04/2013; PackageReference: UFQFPN48; PackageDescription: 48-Pin Ultra Thin Fine Pitch Quad Flat No-Lead, 7 x 7 x 0.6 mm Body, 0.5 mm Pitch, Exposed Pad; Core: ARM Cortex-M3; Operating Frequency(F) (Processor speed) (MHz): 32; Mounting Technology: Surface Mount; ComponentLink2Description: Mouser; ComponentLink2URL: https://pl.mouser.com/ProductDetail/STMicroelectronics/STM32L552RCT6?qs=sGAEpiMZZMto2ohCYbAIUUJm%252BzcpS0IxFbqkp9%2F0sPoEpVjys%2Fepxg%3D%3D
footprint LQFP64 (LQFP, 64-Leads, Body 10,00x10,00mm, Pitch 0,50mm, IPC Medium Density)
part A pins: 2 PC13 (power) "VLCD", 3 PC14-OSC32_IN (power) "VLCD", 4 PC15-OSC32_OUT (power) "VLCD", 5 PH0-OSC_IN (power) "VLCD", 6 PH1-OSC_OUT  (power) "VLCD", 7 NRST (power) "VLCD", 8 PC0 (power) "VLCD", 9 PC1 (power) "VLCD", 10 PC2 (power) "VLCD", 11 PC3 (power) "VLCD", 14 PA0 (power) "VLCD", 15 PA1 (power) "VLCD", 16 PA2 (power) "VLCD", 17 PA3 (power) "VLCD", 20 PA4 (power) "VLCD", 21 PA5 (power) "VLCD", 22 PA6 (power) "VLCD", 23 PA7 (power) "VLCD", 24 PC4 (power) "VLCD", 25 PC5 (power) "VLCD", 26 PB0 (power) "VLCD", 27 PB1 (power) "VLCD", 28 PB2 (power) "VLCD", 29 PB10 (power) "VLCD", 30 PB11 (power) "VLCD", 33 PB12 (power) "VLCD", 34 PB13 (power) "VLCD", 35 PB14 (power) "VLCD", 36 PB15 (power) "VLCD", 37 PC6 (power) "VLCD", 38 PC7 (power) "VLCD", 39 PC8 (power) "VLCD", 40 PC9 (power) "VLCD", 41 PA8 (power) "VLCD", 42 PA9 (power) "VLCD", 43 PA10 (power) "VLCD", 44 PA11 (power) "VLCD", 45 PA12 (power) "VLCD", 46 PA13/SWDIO (power) "VLCD", 49 PA14/SWCLK (power) "VLCD", 50 PA15/JTDI (power) "VLCD", 51 PC10 (power) "VLCD", 52 PC11 (power) "VLCD", 53 PC12 (power) "VLCD", 54 PD2 (power) "VLCD", 55 PB3/JTDO (power) "VLCD", 56 PB4/NJTRST (power) "VLCD", 57 PB5 (power) "VLCD", 58 PB6 (power) "VLCD", 59 PB7 (power) "VLCD", 60 PH3-BOOT0 (power) "VLCD", 61 PB8 (power) "VLCD", 62 PB9 (power) "VLCD"
part B pins: 1 VBAT (power) "VDDA", 12 VSSA (power), 13 VDDA (power), 18 VSS_0 (power) "VDDA", 19 VDD_0 (power) "VDD_1", 31 VSS_1 (power) "VDDA", 32 VDD_1 (power), 47 VSS_2 (power) "VDDA", 48 VDDUSB (power) "VDD_1", 63 VDD_3 (power) "VDDA", 64 VDD_3 (power) "VDD_1"

## switch
designator S?
Published: 24-Mar-1999; LatestRevisionDate: 17-Jul-2002; LatestRevisionNote: Re-released for DXP Platform.; PackageReference: SPST-2; Publisher: Altium Limited; PackageDescription: Switch; 2 Leads
footprint TACK SWITCH 2-PAD
pins: 1, 2

## Tantalum 100uF
designator C?  value 100uF
Polarized Tantalum Capacitor
footprint CAP-B
footprint CAP-C
footprint CAP-D
footprint CAP-A
pins: 1, 2
1 alternate drawing of the same symbol

## Tantalum 220uF
designator C?  value 220uF
Polarized Tantalum Capacitor
footprint CAP-B
footprint CAP-C
footprint CAP-D
footprint CAP-A
pins: 1, 2
1 alternate drawing of the same symbol

## TLP291
designator Q?  (value not drawn)
OPTO  TLP291; ComponentLink1Description: datasheet; ComponentLink1URL: https://datasheet.lcsc.com/szlcsc/TOSHIBA-TLP291-GB-TP-SE-T_C55144.pdf
footprint SO4
pins: 1 A, 2 C, 3 E, 4 C

## TPS74401
designator U?  (value not drawn)
Very Low Dropout Regulator; ComponentLink1Description: datasheet; ComponentLink1URL: https://datasheet.lcsc.com/szlcsc/Texas-Instruments-TI-TPS74401RGWR_C138728.pdf
footprint PVQFN20 (QFN, 20-Leads, Body 5,00x5,00mm, Pitch 0,65mm, Thermal Pad 3,15x3,15mm, IPC Medium Density)
pins: 1 OUT, 5 IN, 6 IN, 7 IN, 8 IN, 9 PG, 10 BIAS, 11 EN, 12 GND, 15 SS, 16 FB, 18 OUT, 19 OUT, 20 OUT, 21 EPAD

## Transil
designator D?
SMBJ26A-E3/52; Published: 8-Jun-2000; LatestRevisionDate: 17-Jul-2002; LatestRevisionNote: Re-released for DXP Platform.; PackageVersion: Sep-1996; PackageReference: SMC; Publisher: Altium Limited; PackageDescription: DO-214-AB/SMC; 2 C-Bend Leads; Body 7.9 x 5.9 mm, inc. leads (LxW); Code_JEDEC: DO-214-AB
footprint SMA (Molded Diode, 2-Leads, Body 4,28x2,60mm, IPC High Density)
pins: 1 A, 2 K

## TVS_bidirectional
designator D?, comment TVS Bidirectional  (value not drawn)
SMAJ40CA; Published: 8-Jun-2000; LatestRevisionDate: 17-Jul-2002; LatestRevisionNote: Re-released for DXP Platform.; PackageReference: DIODE-0.7; Publisher: Altium Limited; PackageDescription: Diode, Thru-Hole; 2 Leads; 0.7 in Pin Spacing; ComponentLink1Description: datasheet; ComponentLink1URL: https://datasheet.lcsc.com/szlcsc/1912111437_Jiangsu-JieJie-Microelectronics-SMAJ40CA_C364660.pdf
footprint SMA (Molded Diode, 2-Leads, Body 4,28x2,60mm, IPC High Density)
pins: 1, 2

## USBLC6-2
designator U?
USBLC6-2 USB_ESD_PROTECTION; ComponentLink1Description: TME; ComponentLink1URL: https://www.tme.eu/pl/details/usblc6-2p6/diody-zabezpieczajace-drabinki/st-microelectronics/
footprint SOT-666 (SOT-666 6-Leads, Body 1,60x1,60mm, Pitch 0,50mm, IPC Medium Density)
pins: 1 I/O1, 2 GND, 3 I/O2, 4 I/O1, 5 VBUS, 6 I/O2

## varistor
designator RV?
WE-VD Disk Varistor, D16.5mm, W5.9mm, H20mm, 250VAC, 320VDC; Manufacturer Part Number: 820542511; Manufacturer: Wurth Elektronik; (Channel) Input Capacitance: 460pF; (Reverse) Peak Pulse Current: 4500A; (Reverse) Breakdown Voltage: 390V; Clamping Voltage: 650V; AC Operating Voltage: 250V; DC Operating Voltage: 320V; Energy Absorbtion: 120J; Power Dissipation: 0.6W; ComponentLink1URL: http://www.we-online.de; ComponentLink2Description: Datasheet; ComponentLink2URL: https://www.we-online.com/catalog/datasheet/820542511.pdf; ComponentLink1Description: Manufacturer; Diameter: 16.5mm; Mounting Technology: THT; Height max.: 20mm; Operating Temperature: -40 to +85degC; Packaging: Tape and Reel; Width max.: 5.9mm; Published Date: April 2020; Width typ.: 4.3mm
footprint D16.5xW5.9xH20xP1.1 (Disk Varistor, Diameter 16.5mm, Width 5.9mm)
pins: 1, 2

## VCNL4040
designator U?
Fully Integrated Proximity and Ambient Light Sensor withInfrared Emitter, I2C Interface, and Interrupt Function; ComponentLink1Description: Datasheet; ComponentLink1URL: https://datasheet.lcsc.com/szlcsc/Vishay-Intertech-VCNL4040M3OE_C142526.pdf
footprint VCNL4040M3OE
pins: 1 GND (power), 2 CS (power), 3 VDD, 4 VDD_L, 5 CL (power), 6 INT (power), 7 SDA, 8 SCL

## XC6201
designator U?
LDO 3.3V; ComponentLink1Description: datasheet; ComponentLink1URL: https://www.torexsemi.com/file/xc6201/XC6201.pdf
footprint SOT25
pins: 1 VIN, 2 VSS, 3 VOUT

## XTAL 8MHz
designator Y?, comment XTAL 8MHz crystal  (value not drawn)
TXC Corp 7A08000001; Published: 8-Jun-2000; LatestRevisionDate: 17-Jul-2002; LatestRevisionNote: Re-released for DXP Platform.; Publisher: Altium Limited; ComponentLink1Description: Datasheet; ComponentLink1URL: http://www.txccorp.com/download/products/quartz_crystals/2015TXC_7A_28.pdf; value: 8MHz; ComponentLink2Description: JLC; ComponentLink2URL: https://jlcpcb.com/parts/componentSearch?secondSortUuid=09f7e4779fd84e989f34c78148375bf2&name=SMD%20Crystal%20Resonators&firstSortUuid=6771ff6d5925444e85b2121d008b3ccd
footprint XTAL500X320X120
pins: 1 OSC1, 2 OSC2

## XTAL 32.768KHz
designator Y?  (value not drawn)
XTAL 32.768KHz crystal; value: 8MHz; Published: 8-Jun-2000; LatestRevisionDate: 17-Jul-2002; LatestRevisionNote: Re-released for DXP Platform.; Publisher: Altium Limited; ComponentLink1Description: Datasheet; ComponentLink1URL: https://datasheet.lcsc.com/szlcsc/1901081604_Seiko-Epson-Q13FC1350000400_C32346.pdf
footprint XTAL_FC-13A
pins: 1 OSC1, 2 OSC2